# Altium footprint library Inductor0201(0603).PcbLib: 1 footprints
Each footprint in its own frame and in the unit in brackets; x right, y up, seen from the top. Pads: shape width x height; smd on the part's side, far side on the other; paste and mask are expansions set on the pad; w line width, h text height; cw(c..) or ccw(c..) is an arc to the next point about the centre after c.
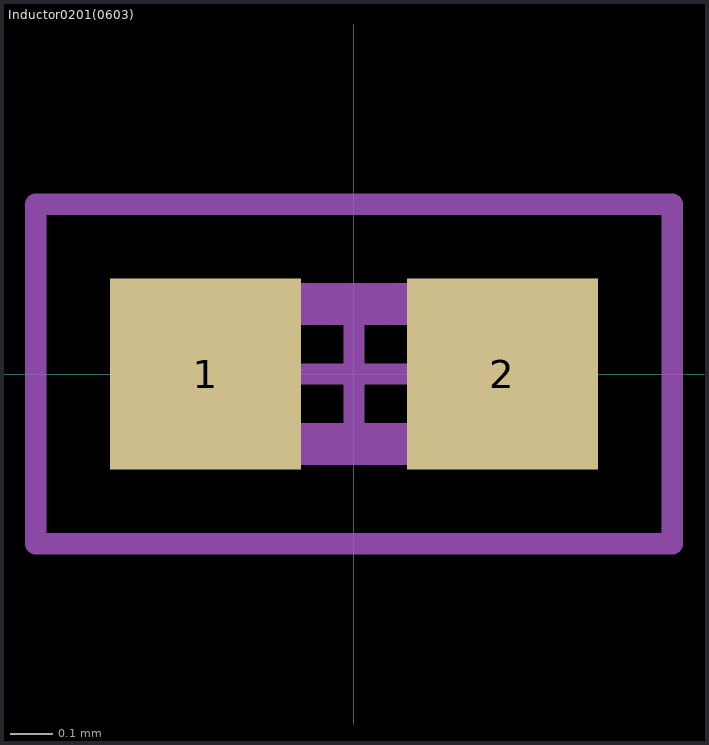
[diagram p0: the footprint, top view; thin cyan lines are the x and y axes]

## Inductor0201(0603) [mm] "Chip Resistor, Body 0.6x0.3mm, IPC Medium Density"
height 0.3
pads (2):
  rect 0.45x0.45 smd: 1(-0.35,0) 2(0.35,0)
Mechanical 13:
  lines w0.1: -0.315,-0.165 -0.315,0.165 0.315,0.165 0.315,-0.165 -0.315,-0.165
Mechanical 15:
  lines w0.05: -0.165,0 0.165,0 ; 0,-0.165 0,0.165 ; -0.75,-0.4 -0.75,0.4 0.75,0.4 0.75,-0.4 -0.75,-0.4
3D body: height 0.3, standoff 0, extent -0.314,-0.164 -0.17,0.165
3D body: height 0.3, standoff 0, extent -0.17,-0.164 0.171,0.165
3D body: height 0.3, standoff 0, extent 0.171,-0.164 0.315,0.165